# Altium schematic symbol library Schematic Diagrams.SchLib: 322 symbols (part 5 of 8)
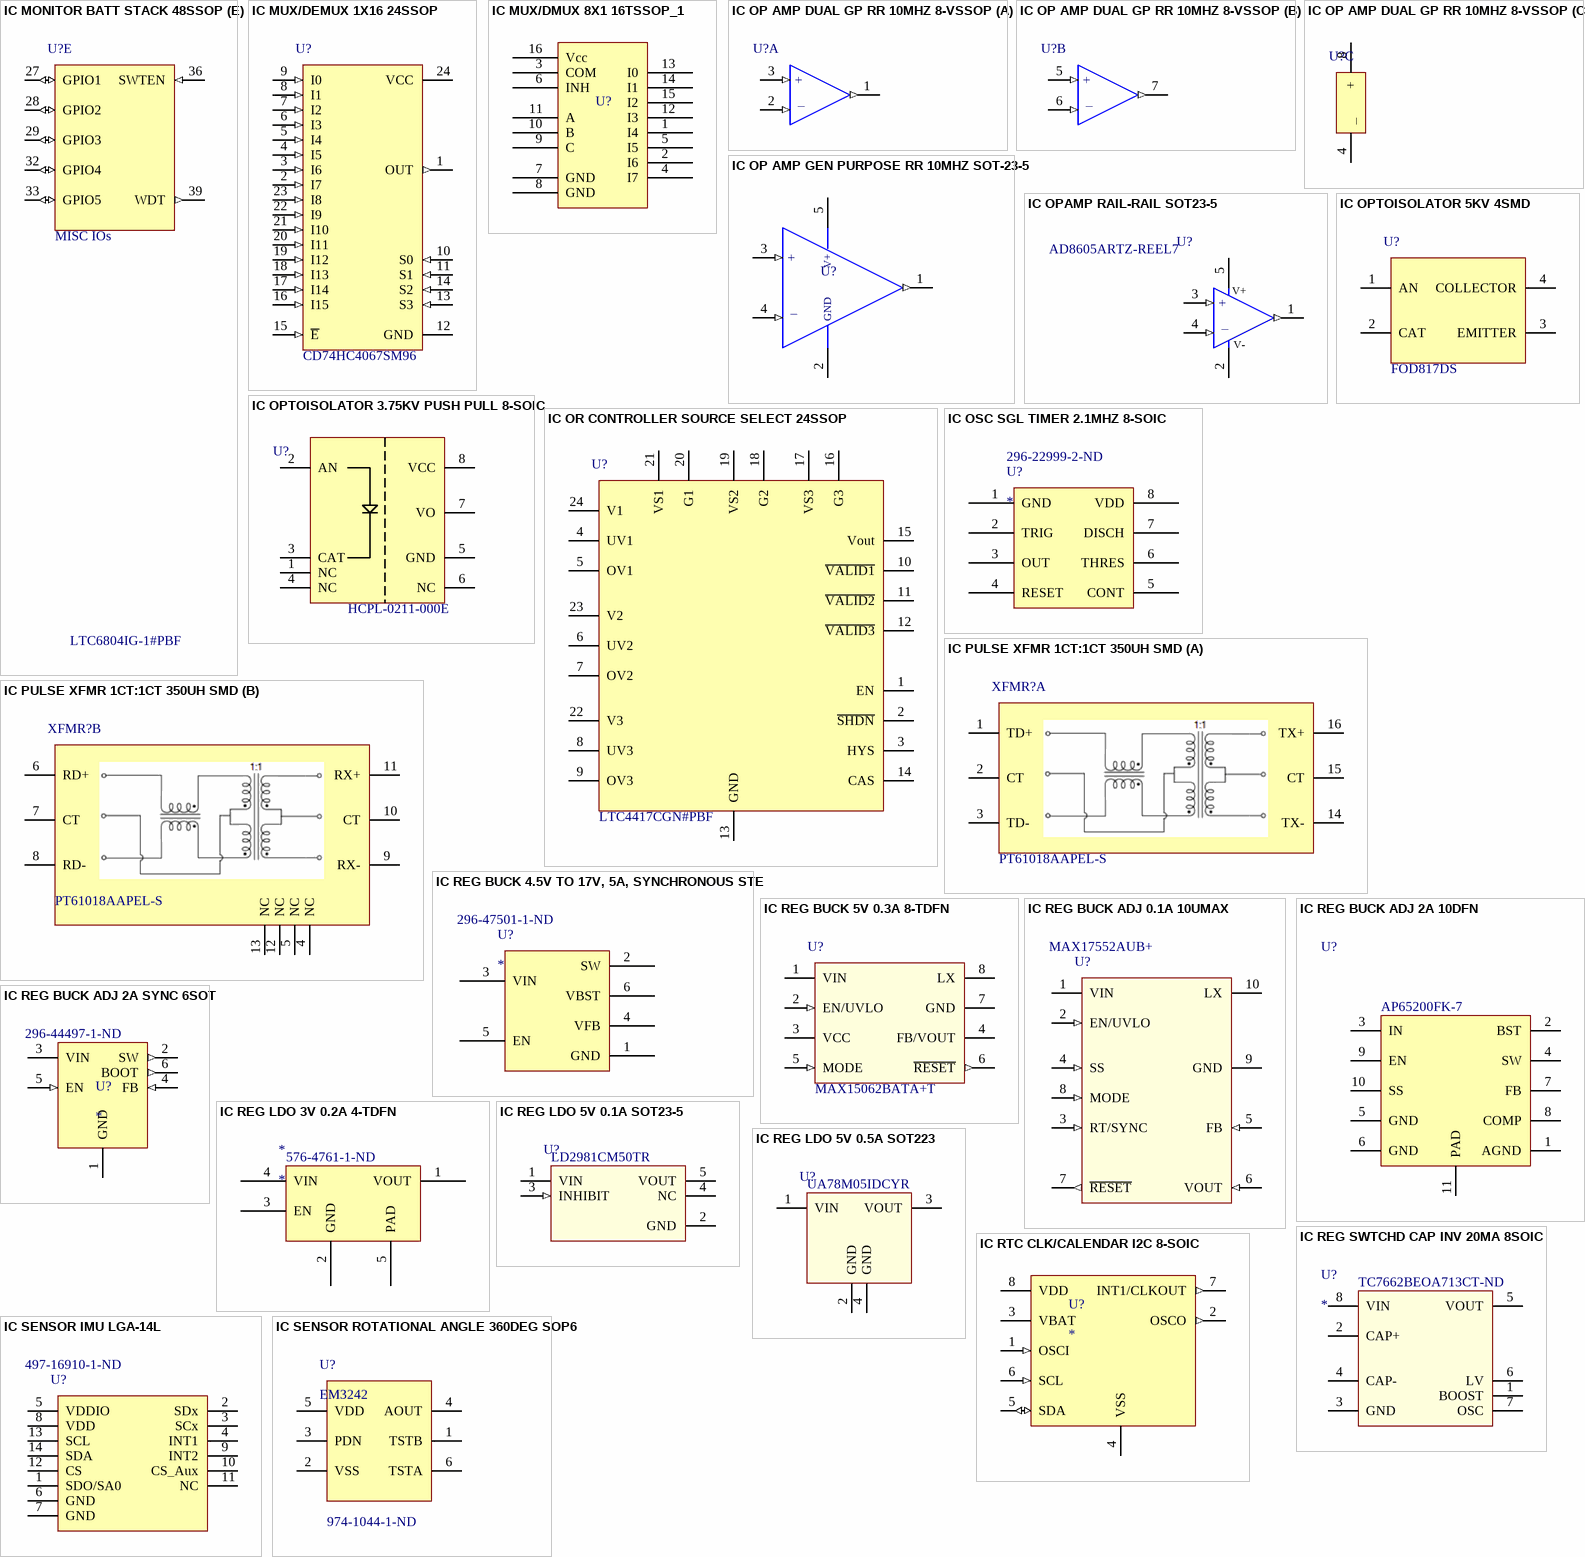
[diagram p14: symbols IC MONITOR BATT STACK 48SSOP to IC SENSOR ROTATIONAL ANGLE 360DEG SOP6]

## IC MONITOR BATT STACK 48SSOP
designator U?  Manufacturer Part Number 1: LTC6804IG-1#PBF
Battery Battery Monitor IC Multi-Chemistry 48-SSOP; Manufacturer 1: Linear Technology; Number of Cells: 1 ~ 12; Fault Protection: Over/Under Voltage; Interface: I²C, SPI; Supplier 1: Digi-Key; Supplier Part Number 1: LTC6804IG-1#PBF-ND; Packaging: Tube; Part Status: Active; Function: Battery Monitor; Battery Chemistry: Multi-Chemistry; Operating Temperature: -40°C ~ 85°C (TA); Package / Case: 48-FSOP (0.209", 5.30mm Width); Supplier Device Package: 48-SSOP; ComponentLink1URL: http://www.linear.com/docs/43171; ComponentLink1Description: http://www.linear.com/docs/43171
footprint SSOP50P780X200-48N (SSOP, 48-Leads, Body 12.80x5.30mm, Pitch 0.50mm, IPC Medium Density)
part A pins: 2 C12, 4 C11, 6 C10, 8 C9, 10 C8, 12 C7, 14 C6, 16 C5, 18 C4, 20 C3, 22 C2, 24 C1, 26 C0
part B pins: 3 S12, 5 S11, 7 S10, 9 S9, 11 S8, 13 S7, 15 S6, 17 S5, 19 S4, 21 S3, 23 S2, 25 S1
part C pins: 1 V+ (power), 30 V- (power), 31 V- (power), 34 VREF2 (power), 35 VREF1 (power), 37 VREG (power), 38 DRIVE (out)
part D pins: 40 ISOMD (in), 41 CSB/IMA (io), 42 SCK/IPA (io), 43 SDI/NC, 44 SDO/NC, 45 IBIAS (in), 46 ICMP (in), 47 IMB (in), 48 IPB (in)
part E pins: 27 GPIO1 (io), 28 GPIO2 (io), 29 GPIO3 (io), 32 GPIO4 (io), 33 GPIO5 (io), 36 SWTEN (in), 39 WDT (out)
part A text: CELL INPUTS
part B text: BALANCING
part C text: POWER
part D text: COMMUNICATION
part E text: MISC IOs

## IC MUX/DEMUX 1X16 24SSOP
designator U?  Manufacturer Part Number 1: CD74HC4067SM96
1 Circuit IC Switch 16:1 160 Ohm 24-SSOP; Manufacturer 1: Texas Instruments; Number of Circuits: 1; On-State Resistance (Max): 160 Ohm; Channel-to-Channel Matching (&Delta;Ron): 8.5 Ohm; Voltage - Supply, Single (V+): 2 V ~ 6 V; Switch Time (Ton, Toff) (Max): 51ns, 49ns; -3db Bandwidth: 89MHz; Channel Capacitance (CS(off), CD(off)): 5pF, 50pF; Current - Leakage (IS(off)) (Max): 800nA; Supplier 1: Digi-Key; Supplier Part Number 1: 296-9226-1-ND; Packaging: Cut Tape (CT); Part Status: Active; Switch Circuit: -; Multiplexer/Demultiplexer Circuit: 16:1; Voltage - Supply, Dual (V±): -; Charge Injection: -; Crosstalk: -; Operating Temperature: -55°C ~ 125°C (TA); Package / Case: 24-SSOP (0.209", 5.30mm Width); Supplier Device Package: 24-SSOP; ComponentLink1URL: http://www.ti.com/lit/ds/symlink/cd74hc4067.pdf; ComponentLink1Description: http://www.ti.com/lit/ds/symlink/cd74hc4067.pdf
footprint SOP127P1030X265-24N (SOP, 24-Leads, Body 15.40x7.50mm, Pitch 1.27mm, IPC Medium Density)
pins: 1 OUT (out), 2 I7 (in), 3 I6 (in), 4 I5 (in), 5 I4 (in), 6 I3 (in), 7 I2 (in), 8 I1 (in), 9 I0 (in), 10 S0 (in), 11 S1 (in), 12 GND (power), 13 S3 (in), 14 S2 (in), 15 ~{E} (in), 16 I15 (in), 17 I14 (in), 18 I13 (in), 19 I12 (in), 20 I11 (in), 21 I10 (in), 22 I9 (in), 23 I8 (in), 24 VCC (power)

## IC MUX/DMUX 8X1 16TSSOP_1
designator U?
1 Circuit IC Switch 8:1 75Ohm 16-TSSOP; Manufacturer: Texas Instruments; Number of Circuits: 1; Voltage - Supply, Single (V+): 2V ~ 5.5V; Channel-to-Channel Matching (ΔRon): 1.3Ohm; -3db Bandwidth: 35MHz; Switch Time (Ton, Toff) (Max): 14ns, 14ns; Channel Capacitance (CS(off), CD(off)): 0.5pF, 23.4pF; Current - Leakage (IS(off)) (Max): 100nA; Series: Automotive, AEC-Q100; Packaging: Cut Tape (CT); Part Status: Active; Multiplexer/Demultiplexer Circuit: 8:1; On-State Resistance (Max): 75Ohm; Voltage - Supply, Dual (V±): -; Crosstalk: -; Operating Temperature: -40°C ~ 125°C (TA); Charge Injection: -; Package / Case: 16-TSSOP (0.173", 4.40mm Width); Supplier Device Package: 16-TSSOP; Switch Circuit: -; Supplier 1: Digi-Key; Supplier Part Number 1: 296-29043-1-ND; ComponentLink1Description: http://www.ti.com/lit/ds/symlink/sn74lv4051a-q1.pdf; ComponentLink1URL: http://www.ti.com/lit/ds/symlink/sn74lv4051a-q1.pdf
footprint 16-TSSOP
pins: 1 I4, 2 I6, 3 COM, 4 I7, 5 I5, 6 INH, 7 GND, 8 GND, 9 C, 10 B, 11 A, 12 I3, 13 I0, 14 I1, 15 I2, 16 Vcc

## IC OP AMP DUAL GP RR 10MHZ 8-VSSOP
designator U?  (value not drawn)
General Purpose Amplifier 2 Circuit Rail-to-Rail 8-VSSOP; Manufacturer: Texas Instruments; Manufacturer Part Number: OPA2197IDGKR; Number of Circuits: 2; Slew Rate: 20V/µs; Gain Bandwidth Product: 10MHz; Input Bias Current: 5pA; Input Offset Voltage (Vos): 250uV; Operating Supply Current: 1mA; Output Current per Channel: 65mA; Supplier 1: Digi-Key; Stock 1: 2171; Pricing 1: 1=2.41, 10=2.162, 100=1.7376, 500=1.4276, 1000=1.1829 (USD); Mount: Surface Mount; Case/Package: VSSOP; Min Operating Temperature: -40°C; Max Operating Temperature: 125°C; Packaging: Tape and Reel; Number of Channels: 2; Lead Free: Lead Free; ComponentLink1URL: http://www.ti.com/lit/ds/symlink/opa2197.pdf; ComponentLink1Description: http://www.ti.com/lit/ds/symlink/opa2197.pdf; Supplier Part Number 1: 296-47349-1-ND
footprint IC OP AMP DUAL 8-VSSOP (VSSOP 8-Leads, Body 3.00x3.00mm, Pitch 0.65mm, IPC Medium Density)
part A pins: 1 OUT A (out), 2 -IN A (in), 3 +IN A (in)
part B pins: 5 +IN B (in), 6 -IN B (in), 7 OUT B (out)
part C pins: 4 _ (power) "0", 8 + (power)

## IC OP AMP GEN PURPOSE RR 10MHZ SOT-23-5
designator U?  (value not drawn)
General Purpose Amplifier 1 Circuit Rail-to-Rail SOT-23-5; Manufacturer 1: Texas Instruments; Manufacturer Part Number 1: TLV316QDBVRQ1; Description 1: IC OP AMP GP RR 10MHZ 5-SOT-23; Number of Circuits: 1; Slew Rate: 6 V/µs; Current - Supply: 400µA; Current - Output / Channel: 50mA; Voltage - Supply, Single/Dual (±): 1.8 V ~ 5.5 V, ±0.9 V ~ 2.75 V; Supplier 1: Digi-Key; Supplier Part Number 1: 296-45323-1-ND; RoHS: RoHS Compliant; Category: Integrated Circuits (ICs); Stock 1: 1747; Pricing 1: 1=1.33, 10=1.185, 100=0.9234, 500=0.76276, 1000=0.60218 (CAD); Packaging: Cut Tape (CT); Part Status: Active; Amplifier Type: General Purpose; Output Type: Rail-to-Rail; -3db Bandwidth: -; Operating Temperature: -40°C ~ 125°C; Mounting Type: Surface Mount; Package / Case: SC-74A, SOT-753; Supplier Device Package: SOT-23-5; ComponentLink1URL: http://www.ti.com/lit/ds/symlink/tlv316-q1.pdf; ComponentLink1Description: http://www.ti.com/lit/ds/symlink/tlv316-q1.pdf
footprint IC OP AMP GP RR 10MHZ SOT-23-5 (SOT23, 5-Leads, Body 2.90x2.80mm, Pitch 0.95mm, IPC Medium Density)
pins: 1 OUTPUT (out), 2 VSS (power), 3 +IN (in), 4 -IN (in), 5 VDD (power)
text: V+; +; GND; _

## IC OPAMP RAIL-RAIL SOT23-5
designator U?  Manufacturer Part Number 1: AD8605ARTZ-REEL7
General Purpose Amplifier 1 Circuit Rail-to-Rail SOT-23-5; Manufacturer 1: Analog Devices Inc.; Number of Circuits: 1; Slew Rate: 5 V/µs; Current - Supply: 1mA; Current - Output / Channel: 80mA; Voltage - Supply, Single/Dual (±): 2.7 V ~ 5.5 V; Supplier 1: Digi-Key; Supplier Part Number 1: AD8605ARTZREEL7CT-ND; Packaging: Cut Tape (CT); Part Status: Active; Amplifier Type: General Purpose; Output Type: Rail-to-Rail; -3db Bandwidth: -; Operating Temperature: -40°C ~ 125°C; Mounting Type: Surface Mount; Package / Case: SC-74A, SOT-753; Supplier Device Package: SOT-23-5; ComponentLink1URL: http://www.analog.com/media/en/technical-documentation/data-sheets/AD8605_8606_8608.pdf; ComponentLink1Description: http://www.analog.com/media/en/technical-documentation/data-sheets/AD8605_8606_8608.pdf
pins: 1 OUT (out), 2 V- (power), 3 +IN (in), 4 -IN (in), 5 V+ (power)
text: +; _

## IC OPTOISOLATOR 3.75KV PUSH PULL 8-SOIC
designator U?  Manufacturer Part Number: HCPL-0211-000E  (hidden comment: *)
Logic Output Optoisolator 5MBd Push-Pull, Totem Pole 3750Vrms 1 Channel 5kV/µs, 10kV/µs CMTI 8-SO Tall; Manufacturer: Broadcom Avago; Forward Voltage: 1.7V; Propagation Delay: 300ns; Number of Channels: 1; Output Current per Channel: 25mA; Isolation Voltage: 3.75kV; Forward Current: 10mA; Reverse Breakdown Voltage: 5V; Direction: Unidirectional; Max Power Dissipation: 210mW; Rise Time: 30ns; Fall Time: 7ns; Data Rate: 5Mbps; Input Current: 5mA; Min Supply Voltage: 4.5V; Max Supply Voltage: 20V; Approvals: CSA,UL,VDE; Supplier 1: Digi-Key; Supplier Part Number 1: 516-1625-5-ND; RoHS: Yes; Stock 1: 3605; Mount: Surface Mount,Through Hole; Case/Package: SOIC; Number of Pins: 8; Contact Plating: Matte,Tin; Min Operating Temperature: -40°C; Max Operating Temperature: 85°C; Packaging: Rail/Tube; Turn-On Delay Time: 300ns; Output Current: 25mA; Max Output Current: 25mA; Package Quantity: 100; Number of Elements: 1; Power Dissipation: 210mW; Max Input Current: 10mA; Max Output Voltage: 20V; Radiation Hardening: No; REACH SVHC: No SVHC; Lead Free: Lead Free; ComponentLink1URL: http://uk.rs-online.com/webdocs/0ad5/0900766b80ad5e24.pdf; ComponentLink1Description: http://uk.rs-online.com/webdocs/0ad5/0900766b80ad5e24.pdf; ComponentLink2URL: https://www.verical.com/server-webapp/html/getDatasheet?partID=117687; ComponentLink2Description: https://www.verical.com/server-webapp/html/getDatasheet?partID=117687; ComponentLink3URL: http://datasheet.iiic.cc/avago_technologies/HCPL-0211-000E.pdf; ComponentLink3Description: http://datasheet.iiic.cc/avago_technologies/HCPL-0211-000E.pdf; ComponentLink4URL: https://produktinfo.conrad.com/datenblaetter/125000-149999/140038-da-01-en-OPTOKOPPLER_HCPL_0211_000E.pdf; ComponentLink4Description: https://produktinfo.conrad.com/datenblaetter/125000-149999/140038-da-01-en-OPTOKOPPLER_HCPL_0211_000E.pdf
footprint IC OPTOISOLATOR HCPL-0211 SO-8 (SOIC, 8-Leads, Body 5.08x3.94mm, Pitch 1.27mm, IPC Medium Density)
pins: 1 NC, 2 AN, 3 CAT, 4 NC, 5 GND, 6 NC, 7 VO, 8 VCC

## IC OPTOISOLATOR 5KV 4SMD
designator U?  Manufacturer Part Number 1: FOD817DS
Optoisolator Transistor Output 5000Vrms 1 Channel 4-SMD; Manufacturer 1: Fairchild/ON Semiconductor; Number of Channels: 1; Current Transfer Ratio (Min): 300% @ 5mA; Current Transfer Ratio (Max): 600% @ 5mA; Rise / Fall Time (Typ): 4µs, 3µs; Input Type: DC; Voltage - Output (Max): 70V; Current - Output / Channel: 50mA; Voltage - Forward (Vf) (Typ): 1.2V; Vce Saturation (Max): 200mV; Supplier 1: Digi-Key; Supplier Part Number 1: FOD817DS-ND; Packaging: Tube; Part Status: Active; Turn On / Turn Off Time (Typ): -; Output Type: Transistor; Current - DC Forward (If) (Max): 50mA; Operating Temperature: -55°C ~ 110°C; Mounting Type: Surface Mount; Package / Case: 4-SMD, Gull Wing; Supplier Device Package: 4-SMD; ComponentLink1URL: https://www.fairchildsemi.com/datasheets/FO/FOD817D.pdf; ComponentLink1Description: https://www.fairchildsemi.com/datasheets/FO/FOD817D.pdf; Voltage - Isolation: 5000Vrms
footprint IC, Optoisolator, FOD817DS
pins: 1 AN, 2 CAT, 3 EMITTER, 4 COLLECTOR

## IC OR CONTROLLER SOURCE SELECT 24SSOP
designator U?  Manufacturer Part Number 1: LTC4417CGN#PBF
OR Controller Source Selector Switch P-Channel 3:1 24-SSOP; Manufacturer 1: Linear Technology; Internal Switch(s): No; Current - Supply: 28µA; Voltage - Supply: 2.5 V ~ 36 V; Supplier 1: Digi-Key; Supplier Part Number 1: LTC4417CGN#PBF-ND; Packaging: Tube; Part Status: Active; Type: Source Selector Switch; FET Type: P-Channel; Ratio - Input:Output: 3:1; Current - Output (Max): -; Operating Temperature: 0°C ~ 70°C; Mounting Type: Surface Mount; Package / Case: 24-SSOP (0.154", 3.90mm Width); Supplier Device Package: 24-SSOP; ComponentLink1URL: http://www.linear.com/docs/42408; ComponentLink1Description: http://www.linear.com/docs/42408
footprint SSOP-24_GN
pins: 1 EN, 2 ~{SHDN}, 3 HYS, 4 UV1, 5 OV1, 6 UV2, 7 OV2, 8 UV3, 9 OV3, 10 ~{VALID1}, 11 ~{VALID2}, 12 ~{VALID3}, 13 GND, 14 CAS, 15 Vout, 16 G3, 17 VS3, 18 G2, 19 VS2, 20 G1, 21 VS1, 22 V3, 23 V2, 24 V1

## IC OSC SGL TIMER 2.1MHZ 8-SOIC
designator U?  Supplier Part Number 1: 296-22999-2-ND
555 Type, Timer/Oscillator (Single) IC 2.1MHz 8-SOIC; Manufacturer: Texas Instruments; Manufacturer Part Number: TLC555QDRQ1; Max Power Dissipation: 725mW; Min Supply Voltage: 2V; Max Supply Voltage: 15V; Nominal Supply Current: 170uA; Number of Timers/Counters: 1; Operating Supply Current: 360uA; High Level Output Current: -10mA; Low Level Output Current: 100mA; Supplier 1: Digi-Key; Stock 1: 60000; Pricing 1: 2500=0.3528, 5000=0.33516, 12500=0.32256 (USD); Mount: Surface Mount; Case/Package: SOIC; Number of Pins: 8; Weight: 0.002561oz; Contact Plating: Gold; Min Operating Temperature: -40°C; Max Operating Temperature: 125°C; Packaging: Tape and Reel; Package Quantity: 2500; Frequency: 2.1MHz; Power Dissipation: 725mW; Quiescent Current: 170uA; Radiation Hardening: No; REACH SVHC: No SVHC; Lead Free: Lead Free; ComponentLink1URL: http://focus.ti.com/lit/ds/symlink/tlc555-q1.pdf?src-supplier=Avnet; ComponentLink1Description: http://focus.ti.com/lit/ds/symlink/tlc555-q1.pdf?src-supplier=Avnet; ComponentLink2URL: http://www.farnell.com/datasheets/1806066.pdf?src-supplier=Element14; ComponentLink2Description: http://www.farnell.com/datasheets/1806066.pdf?src-supplier=Element14; ComponentLink3URL: https://www.verical.com/server-webapp/html/getDatasheet?partID=297376&src-supplier=Verical; ComponentLink3Description: https://www.verical.com/server-webapp/html/getDatasheet?partID=297376&src-supplier=Verical; ComponentLink4URL: http://www.ti.com/lit/ds/symlink/tlc555-q1.pdf?src-supplier=Digi-Key; ComponentLink4Description: http://www.ti.com/lit/ds/symlink/tlc555-q1.pdf?src-supplier=Digi-Key
footprint SOIC8 (Footprint not found)
pins: 1 GND, 2 TRIG, 3 OUT, 4 RESET, 5 CONT, 6 THRES, 7 DISCH, 8 VDD

## IC PULSE XFMR 1CT:1CT 350UH SMD
designator XFMR?  MFG_PN: PT61018AAPEL-S
PULSE XFMR 1CT:1CT 350UH SMD; Manufacturer: Bourns Inc.; Isolation Voltage: 1.5kVrms; Supplier: Digikey; Supplier_PN: PT61018AAPEL-SCT-ND; Inductance: 350uH; Supplier 1: Digi-Key; Supplier Part Number 1: PT61018AAPEL-SCT-ND
footprint IC, PULSE XFMR 1CT:1CT 350UH SMD (PULSE XFMR 1CT:1CT 350UH SMD)
part A pins: 1 TD+, 2 CT, 3 TD-, 14 TX-, 15 CT, 16 TX+
part B pins: 4 NC, 5 NC, 6 RD+, 7 CT, 8 RD-, 9 RX-, 10 CT, 11 RX+, 12 NC, 13 NC

## IC REG BUCK 4.5V TO 17V, 5A, SYNCHRONOUS STE
designator U?  Supplier Part Number 1: 296-47501-1-ND
Buck Switching Regulator IC Positive Adjustable 0.6V 1 Output 5A SOT-23-6 Thin, TSOT-23-6; Manufacturer: Texas Instruments; Manufacturer Part Number: TPS565201DDCT; Supplier 1: Digi-Key; Stock 1: 2226; Pricing 1: 1 = 2.46000, 10 = 2.21100, 100 = 1.77710 (USD); Min Operating Temperature: -40°C; Max Operating Temperature: 125°C
footprint IC REG BUCK 4.5V TO 17V, 5A (Buck Switching Regulator IC Positive Adjustable 0.6V 1 Output 5A SOT-23-6 Thin, TSOT-23-6)
pins: 1 GND, 2 SW, 3 VIN, 4 VFB, 5 EN, 6 VBST

## IC REG BUCK 5V 0.3A 8-TDFN
designator U?  Manufacturer Part Number 1: MAX15062BATA+T
Buck Switching Regulator IC Positive Fixed 5V 1 Output 300mA 8-WFDFN; Manufacturer 1: Maxim Integrated; Function: Step-Down; Number of Outputs: 1; Voltage - Input (Min): 4.5V; Voltage - Input (Max): 60V; Frequency - Switching: 500kHz; Synchronous Rectifier: Yes; Supplier 1: Digi-Key; Supplier Part Number 1: MAX15062BATA+TCT-ND; Packaging: Cut Tape (CT); Part Status: Active; Output Configuration: Positive; Topology: Buck; Output Type: Fixed; Voltage - Output (Min/Fixed): 5V; Voltage - Output (Max): -; Current - Output: 300mA; Operating Temperature: -40°C ~ 125°C (TJ); Mounting Type: Surface Mount; Package / Case: 8-WFDFN; Supplier Device Package: 8-TDFN (2x2); ComponentLink1URL: http://datasheets.maximintegrated.com/en/ds/MAX15062.pdf; ComponentLink1Description: http://datasheets.maximintegrated.com/en/ds/MAX15062.pdf
pins: 1 VIN (power), 2 EN/UVLO (in), 3 VCC (power), 4 FB/VOUT (power), 5 MODE (in), 6 ~{RESET} (out), 7 GND (power), 8 LX (power)

## IC REG BUCK ADJ 0.1A 10UMAX
designator U?  Manufacturer Part Number 1: MAX17552AUB+
Buck Switching Regulator IC Positive Adjustable 0.8V 1 Output 100mA 10-TFSOP, 10-MSOP (0.118", 3.00mm Width); Manufacturer 1: Maxim Integrated; Function: Step-Down; Number of Outputs: 1; Voltage - Input (Min): 4V; Voltage - Input (Max): 60V; Voltage - Output (Max): 54V; Frequency - Switching: 100kHz ~ 2.2MHz; Synchronous Rectifier: Yes; Supplier 1: Digi-Key; Supplier Part Number 1: MAX17552AUB+-ND; Packaging: Tube; Part Status: Active; Output Configuration: Positive; Topology: Buck; Output Type: Adjustable; Voltage - Output (Min/Fixed): 0.8V; Current - Output: 100mA; Operating Temperature: -40°C ~ 125°C (TJ); Mounting Type: Surface Mount; Package / Case: 10-TFSOP, 10-MSOP (0.118", 3.00mm Width); Supplier Device Package: 10-uMAX; ComponentLink1URL: http://datasheets.maximintegrated.com/en/ds/MAX17552.pdf; ComponentLink1Description: http://datasheets.maximintegrated.com/en/ds/MAX17552.pdf
footprint TSSOP50P490X110-10N (TSSOP, 10-Leads, Body 3.00x3.00mm, Pitch 0.50mm, IPC Medium Density)
pins: 1 VIN (power), 2 EN/UVLO (in), 3 RT/SYNC (in), 4 SS (in), 5 FB (in), 6 VOUT (in), 7 ~{RESET} (out), 8 MODE (in), 9 GND (power), 10 LX (power)

## IC REG BUCK ADJ 2A 10DFN
designator U?  Manufacturer Part Number 1: AP65200FK-7
Buck Switching Reg IC Positive Adjustable 0.925V 1 Output 2A 10-UFDFN Exposed Pad; Manufacturer 1: Diodes Incorporated; Function: Step-Down; Number of Outputs: 1; Voltage - Input (Min): 4.7V; Voltage - Input (Max): 18V; Voltage - Output (Max): 16V; Frequency - Switching: 340kHz; Synchronous Rectifier: Yes; Supplier 1: Digi-Key; Supplier Part Number 1: AP65200FK-7DICT-ND; Packaging: Cut Tape (CT); Part Status: Active; Output Configuration: Positive; Topology: Buck; Output Type: Adjustable; Voltage - Output (Min/Fixed): 0.925V; Current - Output: 2A; Operating Temperature: -40°C ~ 85°C (TA); Mounting Type: Surface Mount; Package / Case: 10-UFDFN Exposed Pad; Supplier Device Package: U-DFN2626-10; ComponentLink1URL: https://www.diodes.com/assets/Datasheets/AP65200.pdf; ComponentLink1Description: https://www.diodes.com/assets/Datasheets/AP65200.pdf
footprint 10-UFDFN
pins: 1 AGND, 2 BST, 3 IN, 4 SW, 5 GND (power), 6 GND (power), 7 FB, 8 COMP, 9 EN, 10 SS, 11 PAD

## IC REG BUCK ADJ 2A SYNC 6SOT
designator U?  Supplier Part Number 1: 296-44497-1-ND
Buck Switching Regulator IC Positive Adjustable 0.596V 1 Output 2A SOT-23-6 Thin, TSOT-23-6; Manufacturer: Texas Instruments; Manufacturer Part Number: TPS54202HDDCT; Min Input Voltage: 4.5V; Max Input Voltage: 28V; Number of Outputs: 1; Min Output Voltage: 600mV; Max Output Voltage: 26V; Switching Frequency: 500kHz; Quiescent Current: 40uA; Supplier 1: Digi-Key; Stock 1: 2574; Pricing 1: 1=2, 10=1.796, 100=1.4436 (USD); Case/Package: SOT-6; Number of Pins: 6; Min Operating Temperature: -40°C; Max Operating Temperature: 125°C; Output Current: 2A; Packaging: Cut Tape; Output Voltage: 26V; REACH SVHC: No SVHC; Lead Free: Lead Free; ComponentLink1URL: http://www.ti.com/lit/ds/symlink/tps54202h.pdf; ComponentLink1Description: http://www.ti.com/lit/ds/symlink/tps54202h.pdf; ComponentLink2URL: http://www.ti.com/general/docs/lit/getliterature.tsp?genericPartNumber=TPS54202H&amp;&amp;fileType=pdf; ComponentLink2Description: http://www.ti.com/general/docs/lit/getliterature.tsp?genericPartNumber=TPS54202H&amp;&amp;fileType=pdf; ComponentLink3URL: http://www.ti.com/general/docs/lit/getliterature.tsp?genericPartNumber=TPS54202H&&fileType=pdf; ComponentLink3Description: http://www.ti.com/general/docs/lit/getliterature.tsp?genericPartNumber=TPS54202H&&fileType=pdf
footprint SOT23-6
pins: 1 GND (power) "Ground pin. Source terminal of low-side power NFET as well as the ground terminal for controller", 2 SW (out) "Switch node connection between high-side NFET and low-side NFET.", 3 VIN (power) "Input voltage supply pin. The drain terminal of high-side power NFET", 4 FB (in) "Converter feedback input. Connect to output voltage with feedback resistor divider", 5 EN (in) "This pin is the enable pin. Float the EN pin to disable", 6 BOOT (out) "Supply input for the high-side NFET gate drive circuit. Connect a 0.1-μF capacitor between BOOT and"

## IC REG LDO 3V 0.2A 4-TDFN
designator *  Supplier Part Number 1: 576-4761-1-ND
Manufacturer: Microchip Technology; Manufacturer Part Number: MIC94310-PYMT-TR; Regulator Topology: Positive Fixed; Voltage - Output: 3V; Current - Output: 200mA; Voltage - Dropout (Typical): 0.04V @ 200mA; Voltage - Input: Up to 3.6V; Current - Limit (Min): 250mA; Supplier 1: Digi-Key; RoHS: RoHS Compliant; Category: Integrated Circuits (ICs); Stock 1: 4802; Pricing 1: 1=0.45, 25=0.3708, 100=0.3386 (CAD); Packaging: Cut Tape (CT); Part Status: Active; Operating Temperature: -40°C ~ 125°C; Mounting Type: Surface Mount; Package / Case: 4-UFDFN Exposed Pad; Supplier Device Package: 4-TDFN (1.2x1.6); ComponentLink1URL: http://www.microchip.com/mymicrochip/filehandler.aspx?ddocname=en580409; ComponentLink1Description: http://www.microchip.com/mymicrochip/filehandler.aspx?ddocname=en580409
footprint IC REG LDO 3V 0.2A 4-TDFN (QFN, 4-Leads, Body 1.20x1.60mm, Pitch 0.50mm/1.40mm, Thermal Pad 0.86x0.50mm, IPC Medium Density)
pins: 1 VOUT, 2 GND, 3 EN, 4 VIN, 5 PAD

## IC REG LDO 5V 0.1A SOT23-5
designator U?  Manufacturer Part Number 1: LD2981CM50TR
Linear Voltage Regulator IC Positive Fixed Output 5V 100mA SOT-23-5; Manufacturer 1: STMicroelectronics; Voltage - Dropout (Typical): 0.18V @ 100mA; Voltage - Input: Up to 16V; Supplier 1: Digi-Key; Supplier Part Number 1: 497-7787-1-ND; Packaging: Cut Tape (CT); Part Status: Active; Regulator Topology: Positive Fixed; Voltage - Output: 5V; Current - Output: 100mA; Current - Limit (Min): -; Operating Temperature: -40°C ~ 125°C; Mounting Type: Surface Mount; Package / Case: SC-74A, SOT-753; Supplier Device Package: SOT-23-5; ComponentLink1URL: http://www.st.com/content/ccc/resource/technical/document/datasheet/group1/b7/b5/a1/83/9c/bd/4a/90/CD00001635/files/CD00001635.pdf/jcr:content/translations/en.CD00001635.pdf; ComponentLink1Description: http://www.st.com/content/ccc/resource/technical/document/datasheet/group1/b7/b5/a1/83/9c/bd/4a/90/CD00001635/files/CD00001635.pdf/jcr:content/translations/en.CD00001635.pdf
footprint SOT95P280X145-5N (SOT23, 5-Leads, Body 2.95x2.80mm, Pitch 0.95mm, IPC Medium Density)
pins: 1 VIN (power), 2 GND (power), 3 INHIBIT (in), 4 NC, 5 VOUT (power)

## IC REG LDO 5V 0.5A SOT223
designator U?  Manufacturer Part Number 1: UA78M05IDCYR
Linear Voltage Regulator IC Positive Fixed Output 5V 500mA SOT-223-4; Manufacturer 1: Texas Instruments; Voltage - Dropout (Typical): 2V @ 350mA; Voltage - Input: 7 V ~ 25 V; Supplier 1: Digi-Key; Supplier Part Number 1: 296-17616-1-ND; Packaging: Cut Tape (CT); Part Status: Active; Regulator Topology: Positive Fixed; Voltage - Output: 5V; Current - Output: 500mA; Current - Limit (Min): -; Operating Temperature: -40°C ~ 125°C; Mounting Type: Surface Mount; Package / Case: TO-261-4, TO-261AA; ComponentLink1URL: http://www.ti.com/lit/ds/symlink/ua78m.pdf; ComponentLink1Description: http://www.ti.com/lit/ds/symlink/ua78m.pdf; Supplier Device Package: SOT-223-4
footprint SOT223_N (SOT223, 4-Leads, Body 6.5x3.5mm, Pitch 2.3mm, Lead Span 7mm, IPC Medium Density)
pins: 1 VIN (power), 2 GND (power), 3 VOUT (power), 4 GND (power)

## IC REG SWTCHD CAP INV 20MA 8SOIC
designator U?  Supplier Part Number 1: TC7662BEOA713CT-ND
Charge Pump Switching Regulator IC Positive or Negative Fixed -Vin, 2Vin 1 Output 20mA 8-SOIC (0.154", 3.90mm Width); Manufacturer: Microchip; Manufacturer Part Number: TC7662BEOA713; Number of Outputs: 1; Output Voltage: -15V; Min Supply Voltage: 1.5V; Max Supply Voltage: 15V; Switching Frequency: 35kHz; Synchronous Rectifier: No; Logic Function: Inverting; Output Power: 470mW; Supplier 1: Digi-Key; Stock 1: 59; Pricing 1: 1=2.29, 25=1.9056, 100=1.7304 (USD); Mount: Surface Mount; Case/Package: SOIC; Number of Pins: 8; Weight: 0.006596oz; Min Operating Temperature: -40°C; Max Operating Temperature: 85°C; Package Quantity: 1; Packaging: Tape and Reel; Output Current: 20mA; Max Output Current: 20mA; Max Input Voltage: 15V; Max Output Voltage: -15V; Topology: Charge Pump; Length: 5mm; Height: 1.5mm; Width: 3.99mm; Radiation Hardening: No; Lead Free: Lead Free; ComponentLink1URL: https://datasheet.ciiva.com/2024/21469a-2024368.pdf; ComponentLink1Description: https://datasheet.ciiva.com/2024/21469a-2024368.pdf; ComponentLink2URL: https://datasheet.ciiva.com/2024/filehandler-aspxddocname-en026002-2024369.pdf; ComponentLink2Description: https://datasheet.ciiva.com/2024/filehandler-aspxddocname-en026002-2024369.pdf; ComponentLink3URL: https://datasheet.ciiva.com/16295/filehandler-aspxddocname-en011347-16295442.pdf; ComponentLink3Description: https://datasheet.ciiva.com/16295/filehandler-aspxddocname-en011347-16295442.pdf; ComponentLink4URL: https://datasheet.ciiva.com/3216/cn-21469a-3216331.pdf; ComponentLink4Description: https://datasheet.ciiva.com/3216/cn-21469a-3216331.pdf; ComponentLink5URL: https://datasheet.ciiva.com/18553/filehandler-aspxddocname-en026002-18553038.pdf; ComponentLink5Description: https://datasheet.ciiva.com/18553/filehandler-aspxddocname-en026002-18553038.pdf; ComponentLink6URL: https://datasheet.ciiva.com/4875/21469a-4875151.pdf; ComponentLink6Description: https://datasheet.ciiva.com/4875/21469a-4875151.pdf
pins: 1 BOOST (power), 2 CAP+, 3 GND (power), 4 CAP- (power), 5 VOUT (power), 6 LV (power), 7 OSC (power), 8 VIN (power)

## IC RTC CLK/CALENDAR I2C 8-SOIC
designator U?
Real Time Clock (RTC) IC Clock/Calendar I²C, 2-Wire Serial 8-SOIC (0.154", 3.90mm Width); Manufacturer: NXP Semiconductors; Manufacturer Part Number: PCF8523T/1,118; Min Supply Voltage: 1.2V; Max Supply Voltage: 5.5V; Interface: I2C; Time Format: HH:MM:SS; Supplier 1: Digi-Key; Stock 1: 18252; Pricing 1: 1=1.3, 10=1.16, 100=0.9045, 500=0.74718, 1000=0.58988 (USD); Mount: Surface Mount; Case/Package: SO; Number of Pins: 8; Contact Plating: Gold; Min Operating Temperature: -40°C; Max Operating Temperature: 85°C; Packaging: Tape and Reel; Package Quantity: 2500; Logic Function: Clock; Radiation Hardening: No; REACH SVHC: No SVHC; Lead Free: Lead Free; ComponentLink1URL: https://datasheet.ciiva.com/15152/getdatasheetpartid-445247-15152839.pdf; ComponentLink1Description: https://datasheet.ciiva.com/15152/getdatasheetpartid-445247-15152839.pdf; ComponentLink2URL: https://datasheet.ciiva.com/1238/pcf8523-1238780.pdf; ComponentLink2Description: https://datasheet.ciiva.com/1238/pcf8523-1238780.pdf; ComponentLink3URL: https://datasheet.ciiva.com/1238/pcf8523-1238781.pdf; ComponentLink3Description: https://datasheet.ciiva.com/1238/pcf8523-1238781.pdf; ComponentLink4URL: https://datasheet.ciiva.com/16286/pcf8523-16286477.pdf; ComponentLink4Description: https://datasheet.ciiva.com/16286/pcf8523-16286477.pdf; ComponentLink5URL: https://datasheet.ciiva.com/1238/pcf8523-1238782.pdf; ComponentLink5Description: https://datasheet.ciiva.com/1238/pcf8523-1238782.pdf; Supplier Part Number 1: 568-5306-1-ND
footprint SOIC8
pins: 1 OSCI (in) "oscillator input;", 2 OSCO (out) "oscillator output; high-impedance", 3 VBAT (power) "battery supply voltage", 4 VSS "ground supply votlage", 5 SDA (io) "serial data input/output", 6 SCL (in) "serical clock input", 7 INT1/CLKOUT (out), 8 VDD (power)

## IC SENSOR IMU LGA-14L
designator U?  Supplier Part Number 1: 497-16910-1-ND  (hidden comment: *)
Accelerometer, Gyroscope, 3 Axis Sensor I²C, SPI Output; Manufacturer: STMicroelectronics; Manufacturer Part Number: LSM6DS3USTR; Supplier 1: Digi-Key; RoHS: RoHS Compliant; Category: Sensors, Transducers; Stock 1: 23614; Pricing 1: 1=4.3, 10=3.858, 100=3.1606, 500=2.69052, 1000=2.26912 (CAD); Part Status: Active; Sensor Type: Accelerometer, Gyroscope, 3 Axis; Output Type: I²C, SPI; Operating Temperature: -40°C ~ 85°C (TA); ComponentLink1URL: http://www.st.com/content/ccc/resource/technical/document/datasheet/group0/2e/84/27/34/60/8d/49/f2/DM00237513/files/DM00237513.pdf/jcr:content/translations/en.DM00237513.pdf; ComponentLink1Description: http://www.st.com/content/ccc/resource/technical/document/datasheet/group0/2e/84/27/34/60/8d/49/f2/DM00237513/files/DM00237513.pdf/jcr:content/translations/en.DM00237513.pdf
footprint IC SENSOR IMU LGA-14L (PQFN, 14-Leads, Body 3.00x2.50mm, Pitch 0.50mm, IPC Medium Density)
pins: 1 SDO/SA0, 2 SDx, 3 SCx, 4 INT1, 5 VDDIO, 6 GND, 7 GND, 8 VDD, 9 INT2, 10 CS_Aux, 11 NC, 12 CS, 13 SCL, 14 SDA

## IC SENSOR ROTATIONAL ANGLE 360DEG SOP6
designator U?, comment EM3242  Supplier Part Number 1: 974-1044-1-ND
Hall Effect Sensor Angle External Magnet, Not Included SMD (SMT) Tab; Manufacturer: AKM Semiconductor; Supplier 1: Digi-Key; Manufacturer Part Number: EM3242; Stock 1: 17913; Pricing 1: 1=4.79, 5=4.224, 10=3.731, 25=3.0272, 50=2.6752, 100=2.6048, 500=2.1824, 1000=2.0416 (USD); Mount: Surface Mount; Min Operating Temperature: -30°C; Max Operating Temperature: 85°C; Package Quantity: 5000; Termination: SMD/SMT; Sensing Method: Hall Effect; ComponentLink1URL: https://datasheet.ciiva.com/2812/em-324220ver-097-2812049.pdf; ComponentLink1Description: https://datasheet.ciiva.com/2812/em-324220ver-097-2812049.pdf; ComponentLink2URL: https://datasheet.ciiva.com/2812/em3242-2812050.pdf; ComponentLink2Description: https://datasheet.ciiva.com/2812/em3242-2812050.pdf; ComponentLink3URL: https://datasheet.ciiva.com/2812/em3242-2812051.pdf; ComponentLink3Description: https://datasheet.ciiva.com/2812/em3242-2812051.pdf
footprint IC SENSOR ROTATIONAL ANGLE 360DEG SOP6 (TSOP, 6-Leads, Body 3.60x3.00mm, Pitch 1.00mm, IPC Medium Density)
pins: 1 TSTB, 2 VSS, 3 PDN, 4 AOUT, 5 VDD, 6 TSTA

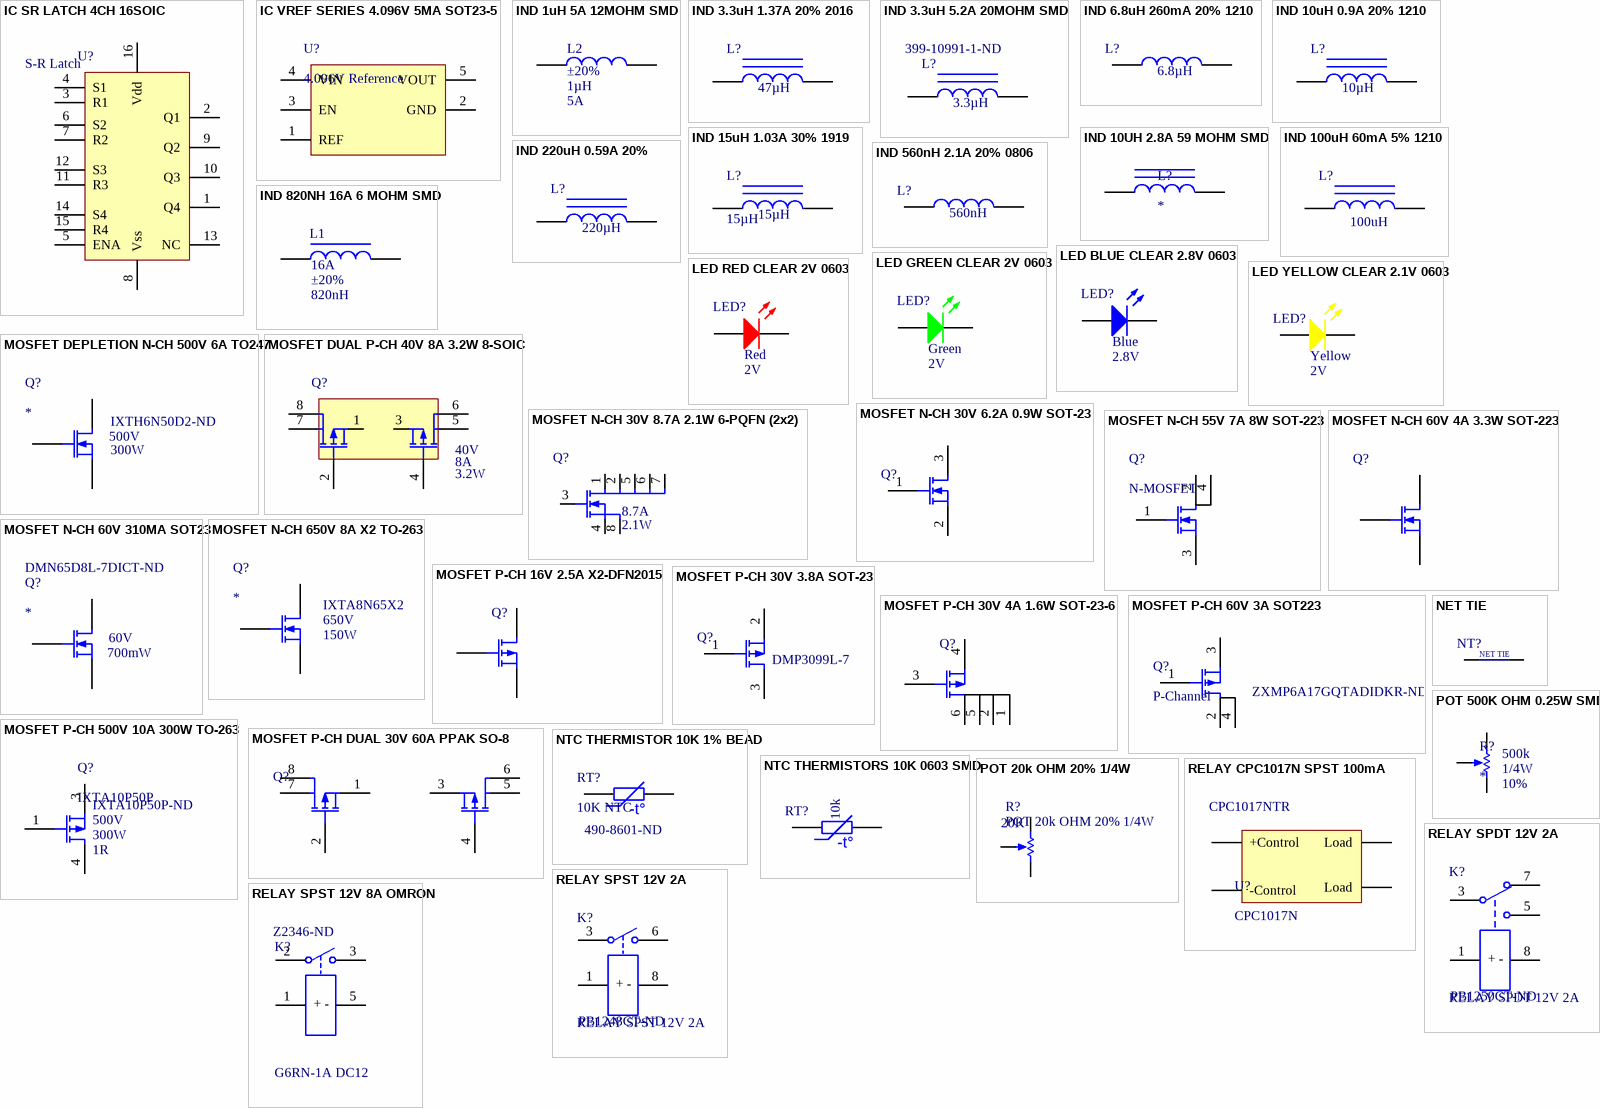
[diagram p7: symbols IC SR LATCH 4CH 16SOIC to RELAY SPST 12V 8A OMRON]

## IC SR LATCH 4CH 16SOIC
designator U?  Logic Type: S-R Latch
S-R Latch 4 Channel 1:1 IC Tri-State 16-TSSOP; Manufacturer 1: Texas Instruments; Manufacturer Part Number 1: CD4043BDR; Voltage - Supply: 3 V ~ 18 V; Delay Time - Propagation: 50ns; Current - Output High, Low: 6.8mA, 6.8mA; Supplier 1: Digi-Key; Supplier Part Number 1: 296-31496-1-ND; Packaging: Cut Tape (CT); Part Status: Active; Circuit: 1:1; Output Type: Tri-State; Operating Temperature: -55°C ~ 125°C; Mounting Type: Surface Mount; Package / Case: 16-SOIC (0.154", 3.90mm Width); Supplier Device Package: 16-SOIC; ComponentLink1URL: http://www.ti.com/lit/ds/symlink/cd4043b.pdf; ComponentLink1Description: http://www.ti.com/lit/ds/symlink/cd4043b.pdf
footprint IC, SR Latch, CD4043BDR (SR LATCH)
pins: 1 Q4, 2 Q1, 3 R1, 4 S1, 5 ENA, 6 S2, 7 R2, 8 Vss, 9 Q2, 10 Q3, 11 R3, 12 S3, 13 NC, 14 S4, 15 R4, 16 Vdd

## IC VREF SERIES 4.096V 5MA SOT23-5
designator U?, comment 4.096V Reference
Series Voltage Reference IC ±0.2% 5mA SOT-23-5; Manufacturer 1: Texas Instruments; Manufacturer Part Number 1: LM4120AIM5-4.1/NOPB; Description 1: IC VREF SERIES 4.096V SOT23-5; Output Type: Fixed; Temperature Coefficient: 50ppm/°C; Noise - 0.1Hz to 10Hz: 20µVp-p; Noise - 10Hz to 10kHz: 36µVp-p; Voltage - Input: 2 V ~ 12 V; Current - Supply: 275µA; Supplier 1: Digi-Key; Supplier Part Number 1: LM4120AIM5-4.1/NOPBCT-ND; RoHS: RoHS Compliant; Category: Integrated Circuits (ICs); Stock 1: 10567; Pricing 1: 1=2.93, 10=2.633, 100=2.1166, 500=1.73892 (CAD); Packaging: Cut Tape (CT); Part Status: Active; Reference Type: Series; Voltage - Output (Min/Fixed): 4.096V; Tolerance: ±0.2%; Operating Temperature: -40°C ~ 85°C (TA); Mounting Type: Surface Mount; Package / Case: SC-74A, SOT-753; Supplier Device Package: SOT-23-5; ComponentLink1URL: http://www.ti.com/lit/ds/symlink/lm4120.pdf; ComponentLink1Description: http://www.ti.com/lit/ds/symlink/lm4120.pdf
footprint IC OP AMP GP RR 10MHZ SOT-23-5 (SOT23, 5-Leads, Body 2.90x2.80mm, Pitch 0.95mm, IPC Medium Density)
pins: 1 REF, 2 GND, 3 EN, 4 VIN, 5 VOUT

## IND 1uH 5A 12MOHM SMD
designator L2, comment Tolerance: ±20%  Inductance: 1µH  Current Rating (Amps): 5A  (hidden comment: IND 1UH 5A 12MOHM SMD)
1µH Semi-Shielded Wirewound Inductor 5A 12mOhm Nonstandard; Manufacturer 1: Bourns Inc.; Manufacturer Part Number 1: SRN5040TA-1R0M; Current - Saturation: 7.5A; Shielding: Semi-Shielded; DC Resistance (DCR): 12mOhm; Mounting Type: Surface Mount; Package / Case: Nonstandard; Supplier 1: Digi-Key; Supplier Part Number 1: SRN5040TA-1R0MCT-ND
footprint IND 1UH 5A 12MOHM SMD (IND 1UH 5A 12MOHM SMD -Semi-shielded)
pins: 1, 2

## IND 3.3uH 1.37A 20% 2016
designator L?  Inductance: 47µH
3.3µH Shielded Wirewound Inductor 1.37A 170 mOhm Max Nonstandard; Manufacturer: TDK Corporation; Manufacturer Part Number: VLS201612CX-3R3M; Material - Core: Ferrite; Tolerance: ±20%; Current - Saturation: 1.04A; Frequency - Test: 1MHz; Supplier 1: Digi-Key; Supplier Part Number 1: 445-172964-1-ND; RoHS: RoHS Compliant; Category: Inductors, Coils, Chokes; Stock 1: 4000; Pricing 1: 1=0.43, 10=0.387, 50=0.3014, 100=0.2798, 500=0.24538, 1000=0.19803 (USD); Packaging: Cut Tape (CT); Type: Wirewound; Current Rating: 1.37A; Shielding: Shielded; DC Resistance (DCR): 170 mOhm Max; Q @ Freq: -; Frequency - Self Resonant: -; Operating Temperature: -40°C ~ 105°C; Mounting Type: Surface Mount; Package / Case: Nonstandard; Size / Dimension: 0.079" L x 0.063" W (2.00mm x 1.60mm); Height - Seated (Max): 0.047" (1.20mm); Supplier Device Package: 2016; ComponentLink1URL: http://product.tdk.com/en/catalog/datasheets/inductor_commercial_power_vls-cx_en.pdf; ComponentLink1Description: http://product.tdk.com/en/catalog/datasheets/inductor_commercial_power_vls-cx_en.pdf
footprint 445-172964-1-ND
pins: 1, 2

## IND 3.3uH 5.2A 20MOHM SMD
designator L?  Inductance: 3.3µH  Supplier Part Number 1: 399-10991-1-ND
3.3µH Shielded Wirewound Inductor 5.2A 20 mOhm Max Nonstandard; Manufacturer: TDK Corporation; Manufacturer Part Number: VLS201612CX-3R3M; Material - Core: Ferrite; Tolerance: ±20%; Current Rating: 1.37A; Current - Saturation: 1.04A; DC Resistance (DCR): 170 mOhm Max; Frequency - Test: 1MHz; Inductance Tolerance: 30%; Test Frequency: 100kHz; RoHS: RoHS Compliant; Category: Inductors, Coils, Chokes; Packaging: Cut Tape (CT); Type: Wirewound; Shielding: Shielded; Q @ Freq: -; Frequency - Self Resonant: -; Operating Temperature: -40°C ~ 105°C; Mounting Type: Surface Mount; Package / Case: Nonstandard; Size / Dimension: 0.079" L x 0.063" W (2.00mm x 1.60mm); Height - Seated (Max): 0.047" (1.20mm); Supplier Device Package: 2016; ComponentLink1URL: http://product.tdk.com/en/catalog/datasheets/inductor_commercial_power_vls-cx_en.pdf; ComponentLink1Description: http://product.tdk.com/en/catalog/datasheets/inductor_commercial_power_vls-cx_en.pdf; Stock 1: 8114; Pricing 1: 1 = 0.60000, 10 = 0.52700, 100 = 0.37660, 500 = 0.31636 (USD); Mount: Surface Mount; Case/Package: Nonstandard; Core Material: Ferrite; Min Operating Temperature: -40°C; Max Operating Temperature: 105°C; Package Quantity: 1; Saturation Current: 5.2A; Max DC Current: 5.2A; Termination: SMD/SMT; Composition: Wirewound; RMS Current (Irms): 5.2A; Military Standard: Not; Length: 0.315inch; Height: 4mm; Width: 8mm; Depth: 8.7mm; REACH SVHC: No SVHC; Lead Free: Lead Free; ComponentLink2URL: http://www.mouser.com/ds/2/400/nductor_commercial_power_vlp8040_en-952627.pdf; ComponentLink2Description: http://www.mouser.com/ds/2/400/nductor_commercial_power_vlp8040_en-952627.pdf; Supplier 1: Digi-Key
footprint IND 3.3UH 5.2A 20 MOHM SMD VLP8040 (IND 3.3UH 5.2A 20 MOHM SMD)
pins: 1, 2

## IND 6.8uH 260mA 20% 1210
designator L?  Inductance: 6.8µH
6.8µH Shielded Wirewound Inductor 260mA 204 mOhm Max 1210 (3225 Metric); Manufacturer 1: TDK Corporation; Manufacturer Part Number 1: NLFV32T-6R8M-EF; Material - Core: Ferrite; Tolerance: ±20%; Supplier 1: Digi-Key; Supplier Part Number 1: 445-15776-1-ND; Packaging: Cut Tape (CT); Part Status: Active; Type: Wirewound; Current Rating: 260mA; Current - Saturation: -; Shielding: Shielded; DC Resistance (DCR): 204 mOhm Max; Q @ Freq: -; Frequency - Self Resonant: -; Ratings: -; Operating Temperature: -40°C ~ 105°C; Mounting Type: Surface Mount; Package / Case: 1210 (3225 Metric); Supplier Device Package: 1210 (3225 Metric); Size / Dimension: 0.126" L x 0.098" W (3.20mm x 2.50mm); Height - Seated (Max): 0.094" (2.40mm); ComponentLink1URL: https://product.tdk.com/info/en/catalog/datasheets/inductor_commercial_decoupling_nlfv32-ef_en.pdf; ComponentLink1Description: https://product.tdk.com/info/en/catalog/datasheets/inductor_commercial_decoupling_nlfv32-ef_en.pdf
footprint NLFV32T-6R8M-EF/IND 6.8uH
pins: 1, 2

## IND 10uH 0.9A 20% 1210
designator L?  Inductance: 10µH
10µH Shielded Wirewound Inductor 900mA 420 mOhm Max 1210 (3225 Metric); Manufacturer: Murata Electronics North America; Manufacturer Part Number: 1277AS-H-100M=P2; Tolerance: ±20%; Current Rating: 0.9A; Current - Saturation: 1.25A; Supplier 1: Digi-Key; Supplier Part Number 1: 490-10589-1-ND; Type: Wirewound; Shielding: Shielded; DC Resistance (DCR): 420 mOhm Max; Height - Seated (Max): 0.047" (1.20mm); ComponentLink1URL: http://www.toko.co.jp/products-murata/pdf/inductors/m_dfe322512c.pdf; ComponentLink1Description: datasheet
footprint 1210
pins: 1, 2

## IND 10UH 2.8A 59 MOHM SMD
designator L?
10µH Shielded Inductor 2.8A 59 mOhm Max Nonstandard; Manufacturer: Sumida; Manufacturer Part Number: CDRH103RNP-100NC-B; Core Material: Ferrite; Tolerance: 30%; Saturation Current: 3.18A; Inductance: 10uh; DC Resistance (DCR): 59mR; Test Frequency: 100kHz; Supplier 1: Digi-Key; Stock 1: 69; Pricing 1: 1=1.53, 10=1.42, 100=1.027, 500=0.7866 (USD); Mount: Surface Mount; Case/Package: Nonstandard; Min Operating Temperature: -40°C; Max Operating Temperature: 100°C; Packaging: Tape and Reel; Package Quantity: 1000; Current Rating: 2.8A; Shielding: Shielded; Max DC Current: 2.8A; Termination: SMD/SMT; Length: 0.402inch; Height: 3.1mm; Width: 0.394inch; Height - Seated (Max): 0.122inch; Depth: 10.3mm; Radiation Hardening: No; Lead Free: Lead Free; ComponentLink1URL: http://www.mouser.com/ds/2/390/CDRH103R-523372.pdf; ComponentLink1Description: http://www.mouser.com/ds/2/390/CDRH103R-523372.pdf; ComponentLink2URL: http://www.sumida.com/products/pdf/CDRH103R.pdf; ComponentLink2Description: http://www.sumida.com/products/pdf/CDRH103R.pdf; ComponentLink3URL: http://products.sumida.com/products/pdf/CDRH103R.pdf; ComponentLink3Description: http://products.sumida.com/products/pdf/CDRH103R.pdf; Supplier Part Number 1: 308-1910-1-ND
footprint INDP100102X31N (Precision Wire Wound Inductor, 2-Leads, Body 10.00x10.20mm, IPC Medium Density)
pins: 1, 2

## IND 15uH 1.03A 30% 1919
designator L?, comment 15µH
15µH Shielded Wirewound Inductor 1.03A 220 mOhm Max 1919 (4848 Metric); Manufacturer: Bourns Inc.; Manufacturer Part Number: SRR4018-150Y; Tolerance: ±30%; Current - Saturation: 820mA; Supplier 1: Digi-Key; Supplier Part Number 1: SRR4018-150YCT-ND; Type: Wirewound; Current Rating: 1.03A; DC Resistance (DCR): 20 mOhm Max; Height - Seated (Max): 0.079" (2.00mm); Inductance: 15µH
footprint IND_BOURNS_SRR40
pins: 1, 2

## IND 100uH 60mA 5% 1210
designator L?  value 100uH
100µH Unshielded Wirewound Inductor 60mA 11 Ohm Max 1210 (3225 Metric); Manufacturer: EPCOS (TDK); Manufacturer Part Number: B82422T1104J000; Material - Core: Ferrite; Tolerance: ±5%; Q @ Freq: 20 @ 796kHz; Supplier 1: Digi-Key; RoHS: RoHS Compliant; Category: Inductors, Coils, Chokes; Stock 1: 4846; Pricing 1: 1=0.65, 10=0.568, 100=0.4062, 500=0.3412, 1000=0.27621 (CAD); Packaging: Cut Tape (CT); Part Status: Active; Type: Wirewound; Shielding: Unshielded; DC Resistance (DCR): 11 Ohm Max; Ratings: AEC-Q200; Operating Temperature: -55°C ~ 125°C; Mounting Type: Surface Mount; Package / Case: 1210 (3225 Metric); Supplier Device Package: 1210 (3225 Metric); Size / Dimension: 0.126" L x 0.098" W (3.20mm x 2.50mm); Height - Seated (Max): 0.083" (2.10mm); ComponentLink1URL: https://en.tdk.eu/inf/30/db/ind_2008/b82422t.pdf; ComponentLink1Description: https://en.tdk.eu/inf/30/db/ind_2008/b82422t.pdf; Supplier Part Number 1: 495-5646-1-ND
footprint 1210
pins: 1, 2

## IND 220uH 0.59A 20%
designator L?  Inductance: 220µH
220µH Shielded Inductor 590mA 834 mOhm Nonstandard; Manufacturer 1: Laird-Signal Integrity Products; Manufacturer Part Number 1: TYS6045221M-10; Current - Saturation: 700mA; Frequency - Self Resonant: 3.5MHz; Tolerance: ±20%; Supplier 1: Digi-Key; Supplier Part Number 1: 240-2742-1-ND; Packaging: Cut Tape (CT); Part Status: Active; Type: -; Material - Core: -; Current Rating: 590mA; Shielding: Shielded; DC Resistance (DCR): 834 mOhm; Q @ Freq: -; Ratings: AEC-Q200; Operating Temperature: -40°C ~ 125°C; Mounting Type: Surface Mount; Package / Case: Nonstandard; Supplier Device Package: -; Size / Dimension: 0.236" L x 0.236" W (6.00mm x 6.00mm); Height - Seated (Max): 0.185" (4.70mm); ComponentLink1URL: http://assets.lairdtech.com/home/brandworld/files/TYS6045221M-10.pdf; ComponentLink1Description: http://assets.lairdtech.com/home/brandworld/files/TYS6045221M-10.pdf
footprint INDP6060X23N (Precision Wire Wound Inductor, 2-Leads, Body 6.00x6.00mm, IPC Medium Density)
pins: 1, 2

## IND 560nH 2.1A 20% 0806
designator L?  Inductance: 560nH
560nH Shielded Multilayer Inductor 2.1A 80 mOhm Max 0806 (2016 Metric); Manufacturer 1: Wurth Electronics Inc.; Manufacturer Part Number 1: 74479977156; Current - Saturation: 2.3A; Frequency - Self Resonant: 24MHz; Tolerance: ±20%; Supplier 1: Digi-Key; Supplier Part Number 1: 732-9702-1-ND; Packaging: Cut Tape (CT); Part Status: Active; Type: Multilayer; Material - Core: -; Current Rating: 2.1A; Shielding: Shielded; DC Resistance (DCR): 80 mOhm Max; Q @ Freq: -; Ratings: -; Operating Temperature: -40°C ~ 125°C; Mounting Type: Surface Mount; Package / Case: 0806 (2016 Metric); Size / Dimension: 0.079" L x 0.063" W (2.00mm x 1.60mm); Height - Seated (Max): 0.024" (0.60mm); ComponentLink1URL: http://katalog.we-online.de/pbs/datasheet/74479977156.pdf; ComponentLink1Description: http://katalog.we-online.de/pbs/datasheet/74479977156.pdf
footprint INDC2116X06N (Chip Inductor, 2-Leads, Body 2.10x1.60mm, IPC Medium Density)
pins: 1, 2

## IND 820NH 16A 6 MOHM SMD
designator L1  Current Rating (Amps): 16A  Tolerance: ±20%  Inductance: 820nH  (hidden comment: IND 820NH 16A 6 MOHM SMD)
820nH Shielded Molded Inductor 16A 6mOhm Max Nonstandard; Manufacturer Part Number: ECS-MPIL0630-R82MC; Manufacturer: ECS Inc.; Supplier 1: Digi-Key; Supplier Part Number 1: XC2399CT-ND; Shielding: Shielded; DC Resistance (DCR): 6mOhm Max; Mounting Type: Surface Mount; Package / Case: Nonstandard; Size / Dimension: 0.291" L x 0.260" W (7.40mm x 6.60mm); Height - Seated (Max): 0.118" (3.00mm)
footprint IND 820NH 16A 6 MOHM SMD (820nH Shielded Molded Inductor 16A 6mOhm Max Nonstandard)
pins: 1, 2

## LED BLUE CLEAR 2.8V 0603
designator LED?  Color: Blue  Voltage - Forward (Vf) (Typ): 2.8V
Blue 470nm LED Indication - Discrete 2.8V 0603 (1608 Metric); Manufacturer 1: Lite-On Inc.; Manufacturer Part Number 1: LTST-C193TBKT-5A; Lens Color: Colorless; Lens Transparency: Clear; Millicandela Rating: 15mcd; Lens Style/Size: Rectangle with Flat Top, 1.15mm x 0.80mm; Current - Test: 5mA; Viewing Angle: 130°; Wavelength - Peak: 468nm; Supplier 1: Digi-Key; Supplier Part Number 1: 160-1827-1-ND; Packaging: Cut Tape (CT); Part Status: Active; Mounting Type: Surface Mount; Wavelength - Dominant: 470nm; Package / Case: 0603 (1608 Metric); Supplier Device Package: Chip LED; Size / Dimension: 1.60mm L x 0.80mm W; Height (Max): 0.45mm; ComponentLink1URL: http://optoelectronics.liteon.com/upload/download/DS22-2004-060/P_100_LTST-C193TBKT-5A.pdf; ComponentLink1Description: http://optoelectronics.liteon.com/upload/download/DS22-2004-060/P_100_LTST-C193TBKT-5A.pdf
footprint LED_0603
pins: 1 A, 2 K

## LED GREEN CLEAR 2V 0603
designator LED?  Color: Green  Voltage - Forward (Vf) (Typ): 2V
Green 572nm LED Indication - Discrete 2V 0603 (1608 Metric); Manufacturer: Wurth Electronics Inc.; Manufacturer Part Number: 150060VS75000; Lens Color: Colorless; Lens Transparency: Clear; Millicandela Rating: 40mcd; Lens Style/Size: Rectangle with Flat Top, 1.10mm x 0.70mm; Current - Test: 20mA; Viewing Angle: 140°; Wavelength - Dominant: 570nm; Supplier 1: Digi-Key; RoHS: RoHS Compliant; Category: Optoelectronics; Stock 1: 9408; Pricing 1: 1=0.21, 100=0.1617, 500=0.13964 (CAD); Packaging: Cut Tape (CT); Part Status: Active; Mounting Type: Surface Mount; Wavelength - Peak: 572nm; Features: -; Package / Case: 0603 (1608 Metric); Supplier Device Package: 0603; Size / Dimension: 1.60mm L x 0.80mm W; Height (Max): 0.80mm; ComponentLink1URL: http://katalog.we-online.de/led/datasheet/150060VS75000.pdf; ComponentLink1Description: http://katalog.we-online.de/led/datasheet/150060VS75000.pdf; Supplier Part Number 1: 732-4980-1-ND
footprint LED_0603
pins: 1 A, 2 K

## LED RED CLEAR 2V 0603
designator LED?  Color: Red  Voltage - Forward (Vf) (Typ): 2V
Red 631nm LED Indication - Discrete 2V 0603 (1608 Metric); Manufacturer: Wurth Electronics Inc.; Manufacturer Part Number: 150060RS75000; Lens Color: Colorless; Lens Transparency: Clear; Millicandela Rating: 250mcd; Lens Style/Size: Rectangle with Flat Top, 1.10mm x 0.70mm; Current - Test: 20mA; Viewing Angle: 140°; Wavelength - Dominant: 625nm; Wavelength - Peak: 630nm; Supplier 1: Digi-Key; RoHS: RoHS Compliant; Category: Optoelectronics; Stock 1: 35521; Pricing 1: 1=0.21, 100=0.1617, 500=0.13964 (CAD); Packaging: Cut Tape (CT); Part Status: Active; Mounting Type: Surface Mount; Features: -; Package / Case: 0603 (1608 Metric); Supplier Device Package: 0603; Size / Dimension: 1.60mm L x 0.80mm W; Height (Max): 0.80mm; ComponentLink1URL: http://katalog.we-online.de/led/datasheet/150060RS75000.pdf; ComponentLink1Description: http://katalog.we-online.de/led/datasheet/150060RS75000.pdf; Supplier Part Number 1: 732-4978-1-ND
footprint LED_0603
pins: 1 A, 2 K

## LED YELLOW CLEAR 2.1V 0603
designator LED?  Color: Yellow  Voltage - Forward (Vf) (Typ): 2V  (hidden comment: LED YELLOW CLEAR 2.1V 0603)
Yellow 590nm LED Indication - Discrete 2V 0603 (1608 Metric); Manufacturer: Wurth Electronics Inc.; Manufacturer Part Number: 150060YS75000; Lens Color: Colorless; Millicandela Rating: 120mcd; Lens Style/Size: Rectangle with Flat Top, 1.10mm x 0.70mm; Current - Test: 20mA; Viewing Angle: 140°; Wavelength - Peak: 595nm; Supplier 1: Digi-Key; RoHS: RoHS Compliant; Category: Optoelectronics; Stock 1: 10523; Pricing 1: 1=0.21, 100=0.1617, 500=0.13964 (CAD); Packaging: Cut Tape (CT); Part Status: Active; Lens Transparency: Clear; Mounting Type: Surface Mount; Wavelength - Dominant: 590nm; Features: -; Package / Case: 0603 (1608 Metric); Supplier Device Package: 0603; Size / Dimension: 1.60mm L x 0.80mm W; Height (Max): 0.80mm; ComponentLink1URL: http://katalog.we-online.de/led/datasheet/150060YS75000.pdf; ComponentLink1Description: http://katalog.we-online.de/led/datasheet/150060YS75000.pdf; Supplier Part Number 1: 732-4981-1-ND
footprint LED_0603
pins: 1 A, 2 K

## MOSFET DEPLETION N-CH 500V 6A TO247
designator Q?  Drain to Source Voltage (Vdss): 500V  Max Power Dissipation: 300W  Supplier Part Number 1: IXTH6N50D2-ND
N-Channel 500V 6A (Tc) 300W (Tc) Through Hole TO-247 (IXTH); Manufacturer: IXYS; Manufacturer Part Number: IXTH6N50D2; Rds On Max: 500mR; Input Capacitance: 2.8nF; Stock 1: 79; Pricing 1: 1=7.25, 10=6.521, 100=5.3613, 500=4.4919, 1000=3.9123 (USD); Mount: Through Hole; Case/Package: TO-247-3; Packaging: Rail/Tube; Package Quantity: 30; Continuous Drain Current (ID): 6A; ComponentLink1URL: https://datasheet.ciiva.com/949/ds100177bixta-tp-th6n50d2-949628.pdf; ComponentLink1Description: https://datasheet.ciiva.com/949/ds100177bixta-tp-th6n50d2-949628.pdf; ComponentLink2URL: https://datasheet.ciiva.com/26790/ixth6n50d2-26790808.pdf; ComponentLink2Description: https://datasheet.ciiva.com/26790/ixth6n50d2-26790808.pdf; Supplier 1: Digi-Key
footprint N-CH Depletion Mode TO-247-3
pins: 1 G, 2 D, 3 S

## MOSFET DUAL P-CH 40V 8A 3.2W 8-SOIC
designator Q?  Drain to Source Voltage (Vdss): 40V  Current - Continuous Drain (Id) @ 25°C: 8A  Power - Max: 3.2W  (hidden comment: *)
Mosfet Array 2 P-Channel (Dual) 40V 8A 3.2W Surface Mount 8-SO; Manufacturer 1: Vishay Siliconix; Manufacturer Part Number 1: SI4909DY-T1-GE3; Description 1: MOSFET 2P-CH 40V 8A 8SO; FET Feature: Logic Level Gate; Rds On (Max) @ Id, Vgs: 27 mOhm @ 8A, 10V; Vgs(th) (Max) @ Id: 2.5V @ 250µA; Gate Charge (Qg) (Max) @ Vgs: 63nC @ 10V; Input Capacitance (Ciss) (Max) @ Vds: 2000pF @ 20V; Supplier 1: Digi-Key; Supplier Part Number 1: SI4909DY-T1-GE3CT-ND; RoHS: RoHS Compliant; Category: Discrete Semiconductor Products; Stock 1: 11582; Pricing 1: 1=1.57, 10=1.407, 25=1.3352, 100=1.0969, 250=1.02536, 500=0.90614, 1000=0.71538 (CAD); Packaging: Cut Tape (CT); Part Status: Active; FET Type: 2 P-Channel (Dual); Operating Temperature: -55°C ~ 150°C (TJ); Mounting Type: Surface Mount; Package / Case: 8-SOIC (0.154", 3.90mm Width); Supplier Device Package: 8-SO; ComponentLink1URL: http://www.vishay.com/docs/67077/si4909dy.pdf; ComponentLink1Description: http://www.vishay.com/docs/67077/si4909dy.pdf
footprint SOIC8
pins: 1 S1, 2 G1, 3 S2, 4 G2, 5 D2, 6 D2, 7 D1, 8 D1

## MOSFET N-CH 30V 6.2A 0.9W SOT-23
designator Q?  (value not drawn)
N-Channel 30V 6.2A (Ta) 900mW (Ta) Surface Mount SOT-23; Manufacturer: Diodes; Manufacturer Part Number: DMN3023L-7; Rds On Max: 25mR; Input Capacitance: 873pF; Supplier 1: Digi-Key; Stock 1: 38246; Pricing 1: 1=0.47, 10=0.368, 100=0.2529, 500=0.1734, 1000=0.1301 (USD); Mount: Surface Mount; Case/Package: TO-236-3; Min Operating Temperature: -55°C; Max Operating Temperature: 150°C; Packaging: Tape and Reel; Drain to Source Voltage (Vdss): 30V; Continuous Drain Current (ID): 6.2A; Max Power Dissipation: 900mW; ComponentLink1URL: https://www.diodes.com/assets/Datasheets/DMN3023L.pdf; ComponentLink1Description: https://www.diodes.com/assets/Datasheets/DMN3023L.pdf; ComponentLink2URL: http://www.mouser.com/ds/2/115/DMN3023L-959533.pdf; ComponentLink2Description: http://www.mouser.com/ds/2/115/DMN3023L-959533.pdf; Supplier Part Number 1: DMN3023L-7DICT-ND
footprint MOSFET N-CH 30V 6.2A 0.9W SOT-23 (SOT23, 3-Leads, Body 2.90x2.40mm, Pitch 0.90mm, IPC Medium Density)
pins: 1 G, 2 S, 3 D